# Altium footprint library MechanicalRelay.PcbLib: 3 footprints
Each footprint in its own frame and in the unit in brackets; x right, y up, seen from the top. Pads: shape width x height; smd on the part's side, far side on the other; paste and mask are expansions set on the pad; w line width, h text height; cw(c..) or ccw(c..) is an arc to the next point about the centre after c.
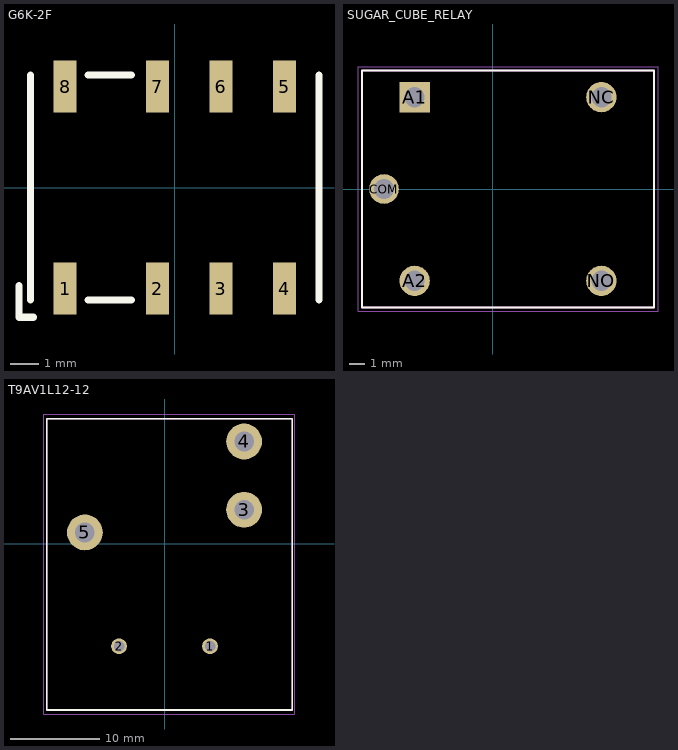
[diagram p0: the footprints below, top view; thin cyan lines are the x and y axes]

## G6K-2F [mm]
height 5.2
pads (8):
  rect 0.8x1.8 smd mask+0.05: 1(-3.8,-3.5) 2(-0.6,-3.5) 3(1.6,-3.5) 4(3.8,-3.5) 5(3.8,3.5) 6(1.6,3.5) 7(-0.6,3.5) 8(-3.8,3.5)
Top Overlay:
  lines w0.254: -5.4,-3.4 -5.4,-4.5 -4.9,-4.5 ; -5,-3.9 -5,3.9 ; -3,-3.9 -1.5,-3.9 ; -3,3.9 -1.5,3.9 ; 5,-3.9 5,3.9
3D body "G6K-2F-Y 5VDC.STEP": height 5.2, standoff 0, extent -4.99,-3.9 5.01,3.9

## SUGAR_CUBE_RELAY [mm]
pads (5):
  rect 1.98x1.98 / inner round 1.98 / far side rect 1.98x1.98 hole 1.32: A1(-5.1,6)
  round 1.98 hole 1.32: A2(-5.1,-6) NC(7.1,6) NO(7.1,-6)
  round 1.935 hole 1.29: COM(-7.1,0)
Top Overlay:
  lines w0.127: -8.55,-7.75 10.55,-7.75 10.55,7.75 -8.55,7.75 -8.55,-7.75
Mechanical 13:
  lines w0.127: -8.55,-7.75 10.55,-7.75 10.55,7.75 -8.55,7.75 -8.55,-7.75
Mechanical 15:
  lines w0.05: -8.8,-8 10.8,-8 10.8,8 -8.8,8 -8.8,-8
3D body "step_temp.STEP": height 15.8, standoff -3, extent -8.6,-7.8 10.6,7.8

## T9AV1L12-12 [mm] "General Purpose Relay SPST-NO (1 Form A) 12VDC Coil Through Hole"
pads (5):
  round 1.755 hole 1.17: 1(5.08,-11.43) 2(-5.08,-11.43)
  round 4 hole 2.19: 3(8.89,3.81) 4(8.89,11.43) 5(-8.89,1.27)
Top Overlay:
  lines w0.2: -13.16,-18.54 14.27,-18.54 14.27,13.97 -13.16,13.97 -13.16,-18.54
Mechanical 13:
  lines w0.2: -13.16,-18.54 14.27,-18.54 14.27,13.97 -13.16,13.97 -13.16,-18.54
Mechanical 15:
  lines w0.1: -13.5,-19 14.5,-19 14.5,14.5 -13.5,14.5 -13.5,-19
3D body "c-1-1423091-8-k-3d.stp": height 20.04, standoff -3.71, extent -13.259,-18.756 14.173,13.756